# Altium footprint library resistors.PcbLib: 6 footprints
Each footprint in its own frame and in the unit in brackets; x right, y up, seen from the top. Pads: shape width x height; smd on the part's side, far side on the other; paste and mask are expansions set on the pad; w line width, h text height; cw(c..) or ccw(c..) is an arc to the next point about the centre after c.
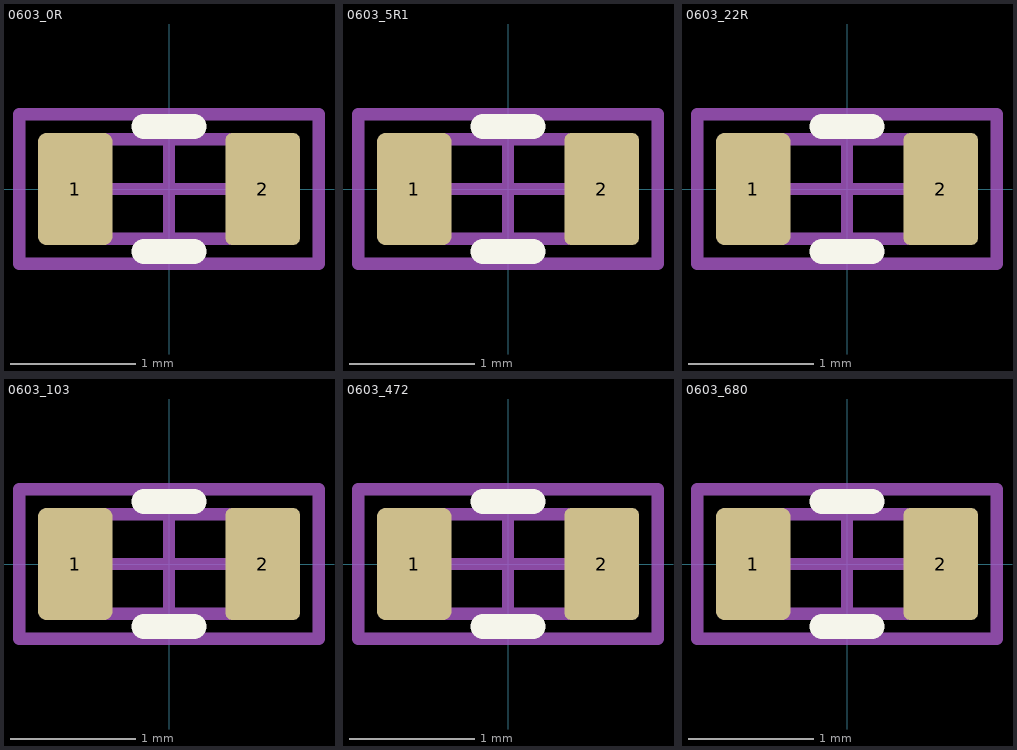
[diagram p0: the footprints below, top view; thin cyan lines are the x and y axes]

## 0603_0R [mm] "0603 0R jumper resistor"
height 0.45
pads (2):
  rrect25% 0.6x0.9 smd: 1(-0.75,0)
  rrect20% 0.6x0.9 smd: 2(0.75,0)
Top Overlay:
  lines w0.2: -0.2,-0.5 0.2,-0.5 ; -0.2,0.5 0.2,0.5
Top Assembly:
  lines w0.1: -0.8,-0.4 0.8,-0.4 0.8,0.4 -0.8,0.4 -0.8,-0.4
Top Component Center:
  lines w0.1: -0.5,0 0.5,0 ; 0,-0.5 0,0.5
Top Component Outline:
  lines w0.1: -0.8,-0.4 0.8,-0.4 0.8,0.4 -0.8,0.4 -0.8,-0.4
Top Courtyard:
  lines w0.1: -1.2,-0.6 -1.2,0.6 1.2,0.6 1.2,-0.6 -1.2,-0.6
Top Designator:
  text "''.Designator''" at 0,0 h2.5
Top Value:
  text "''.Comment''" at 0,0 h2.5
3D body "0603_smd_resistor_0R.STEP": height 0.45, standoff 0, extent -0.8,-0.4 0.8,0.4

## 0603_5R1 [mm] "0603 5R1 resistor"
height 0.45
pads (2):
  rrect25% 0.6x0.9 smd: 1(-0.75,0)
  rrect20% 0.6x0.9 smd: 2(0.75,0)
Top Overlay:
  lines w0.2: -0.2,-0.5 0.2,-0.5 ; -0.2,0.5 0.2,0.5
Top Assembly:
  lines w0.1: -0.8,-0.4 -0.8,0.4 0.8,0.4 0.8,-0.4 -0.8,-0.4
Top Component Center:
  lines w0.1: -0.5,0 0.5,0 ; 0,-0.5 0,0.5
Top Component Outline:
  lines w0.1: -0.8,-0.4 -0.8,0.4 0.8,0.4 0.8,-0.4 -0.8,-0.4
Top Courtyard:
  lines w0.1: -1.2,-0.6 1.2,-0.6 1.2,0.6 -1.2,0.6 -1.2,-0.6
Top Designator:
  text "''.Designator''" at 0,0 h2.5
Top Value:
  text "''.Comment''" at 0,0 h2.5
3D body "0603_smd_resistor_5R1.STEP": height 0.45, standoff 0, extent -0.8,-0.4 0.8,0.4

## 0603_22R [mm] "0603 22R resistor"
height 0.45
pads (2):
  rrect25% 0.6x0.9 smd: 1(-0.75,0)
  rrect20% 0.6x0.9 smd: 2(0.75,0)
Top Overlay:
  lines w0.2: -0.2,-0.5 0.2,-0.5 ; -0.2,0.5 0.2,0.5
Top Assembly:
  lines w0.1: -0.8,-0.4 -0.8,0.4 0.8,0.4 0.8,-0.4 -0.8,-0.4
Top Component Center:
  lines w0.1: -0.5,0 0.5,0 ; 0,-0.5 0,0.5
Top Component Outline:
  lines w0.1: -0.8,-0.4 -0.8,0.4 0.8,0.4 0.8,-0.4 -0.8,-0.4
Top Courtyard:
  lines w0.1: -1.2,-0.6 1.2,-0.6 1.2,0.6 -1.2,0.6 -1.2,-0.6
Top Designator:
  text "''.Designator''" at 0,0 h2.5
Top Value:
  text "''.Comment''" at 0,0 h2.5
3D body "0603_smd_resistor_22R.STEP": height 0.49, standoff 0.04, extent -0.8,-0.4 0.8,0.4

## 0603_103 [mm] "0603 10k resistor"
height 0.45
pads (2):
  rrect25% 0.6x0.9 smd: 1(-0.75,0)
  rrect20% 0.6x0.9 smd: 2(0.75,0)
Top Overlay:
  lines w0.2: -0.2,-0.5 0.2,-0.5 ; -0.2,0.5 0.2,0.5
Top Assembly:
  lines w0.1: -0.8,-0.4 -0.8,0.4 0.8,0.4 0.8,-0.4 -0.8,-0.4
Top Component Center:
  lines w0.1: -0.5,0 0.5,0 ; 0,-0.5 0,0.5
Top Component Outline:
  lines w0.1: -0.8,-0.4 -0.8,0.4 0.8,0.4 0.8,-0.4 -0.8,-0.4
Top Courtyard:
  lines w0.1: -1.2,-0.6 1.2,-0.6 1.2,0.6 -1.2,0.6 -1.2,-0.6
Top Designator:
  text "''.Designator''" at 0,0 h2.5
Top Value:
  text "''.Comment''" at 0,0 h2.5
3D body "0603_smd_resistor_103.STEP": height 0.45, standoff 0, extent -0.8,-0.4 0.8,0.4

## 0603_472 [mm] "0603 4k7 resistor"
height 0.45
pads (2):
  rrect25% 0.6x0.9 smd: 1(-0.75,0)
  rrect20% 0.6x0.9 smd: 2(0.75,0)
Top Overlay:
  lines w0.2: -0.2,-0.5 0.2,-0.5 ; -0.2,0.5 0.2,0.5
Top Assembly:
  lines w0.1: -0.8,-0.4 0.8,-0.4 0.8,0.4 -0.8,0.4 -0.8,-0.4
Top Component Center:
  lines w0.1: -0.5,0 0.5,0 ; 0,-0.5 0,0.5
Top Component Outline:
  lines w0.1: -0.8,-0.4 0.8,-0.4 0.8,0.4 -0.8,0.4 -0.8,-0.4
Top Courtyard:
  lines w0.1: -1.2,-0.6 -1.2,0.6 1.2,0.6 1.2,-0.6 -1.2,-0.6
Top Designator:
  text "''.Designator''" at 0,0 h2.5
Top Value:
  text "''.Comment''" at 0,0 h2.5
3D body "0603_smd_resistor_472.STEP": height 0.45, standoff 0, extent -0.8,-0.4 0.8,0.4

## 0603_680 [mm] "0603 68R resistor"
height 0.45
pads (2):
  rrect25% 0.6x0.9 smd: 1(-0.75,0)
  rrect20% 0.6x0.9 smd: 2(0.75,0)
Top Overlay:
  lines w0.2: -0.2,-0.5 0.2,-0.5 ; -0.2,0.5 0.2,0.5
Top Assembly:
  lines w0.1: -0.8,-0.4 -0.8,0.4 0.8,0.4 0.8,-0.4 -0.8,-0.4
Top Component Center:
  lines w0.1: -0.5,0 0.5,0 ; 0,-0.5 0,0.5
Top Component Outline:
  lines w0.1: -0.8,-0.4 -0.8,0.4 0.8,0.4 0.8,-0.4 -0.8,-0.4
Top Courtyard:
  lines w0.1: -1.2,-0.6 1.2,-0.6 1.2,0.6 -1.2,0.6 -1.2,-0.6
Top Designator:
  text "''.Designator''" at 0,0 h2.5
Top Value:
  text "''.Comment''" at 0,0 h2.5
3D body "0603_smd_resistor_680.STEP": height 0.45, standoff 0, extent -0.8,-0.4 0.8,0.4